# Altium footprint library SiProFaSi.PcbLib: 6 footprints
Each footprint in its own frame and in the unit in brackets; x right, y up, seen from the top. Pads: shape width x height; smd on the part's side, far side on the other; paste and mask are expansions set on the pad; w line width, h text height; cw(c..) or ccw(c..) is an arc to the next point about the centre after c.
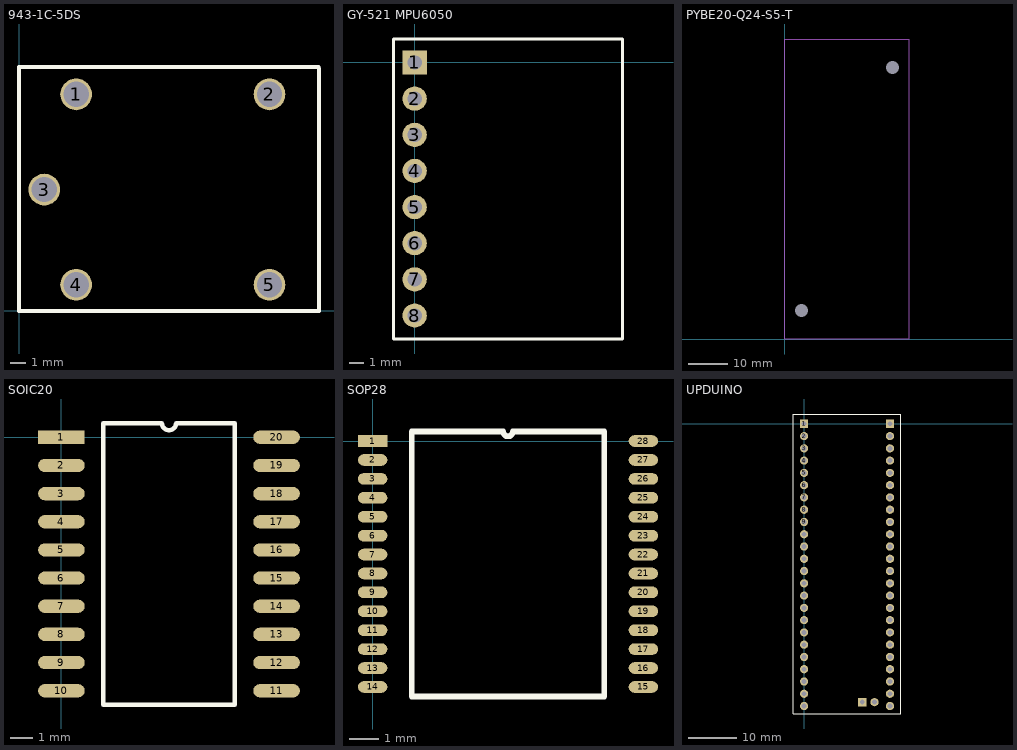
[diagram p0: the footprints below, top view; thin cyan lines are the x and y axes]

## 943-1C-5DS [mm]
height 15.2
pads (5):
  round 2 hole 1.6: 1(3.6,13.65) 2(15.8,13.65) 3(1.6,7.65) 4(3.6,1.65) 5(15.8,1.65)
Top Overlay:
  lines w0.254: 0,15.3 0,0 18.9,0 ; 0,15.367 18.9,15.367 ; 18.923,0 18.923,15.3
3D body: height 15.2, standoff 0, extent 0,0 18.923,15.367

## GY-521 MPU6050 [mm]
pads (8):
  rect 1.7x1.7 hole 1: 1(0,0)
  round 1.7 hole 1: 2(0,-2.54) 3(0,-5.08) 4(0,-7.62) 5(0,-10.16) 6(0,-12.7) 7(0,-15.24) 8(0,-17.78)
Top Overlay:
  lines w0.2: -1.49,1.569 -1.49,-19.431 14.605,-19.431 14.605,1.651 -1.49,1.651

## PYBE20-Q24-S5-T [mm]
height 21.2
pads (2):
  round 1.524 hole 3.3: 1(4.25,7.2) 1(27.25,68.8)
Mechanical 1:
  lines w0.254: 0,0 0,76 31.5,76 ; 0.031,0.031 31.531,0.031 ; 31.5,0.031 31.5,76.031
3D body "PYBE20-Q24-S5-T.STEP": height 21.2, standoff 0, extent 0,0 31.5,76

## SOIC20 [mm]
height 3.55
pads (20):
  rect 2.1x0.6 smd: 1(0,0)
  oval 2.1x0.6 smd: 2(0,-1.27) 3(0,-2.54) 4(0,-3.81) 5(0,-5.08) 6(0,-6.35) 7(0,-7.62) 8(0,-8.89) 9(0,-10.16) 10(0,-11.43) 11(9.7,-11.43) 12(9.7,-10.16) 13(9.7,-8.89) 14(9.7,-7.62) 15(9.7,-6.35) 16(9.7,-5.08) 17(9.7,-3.81) 18(9.7,-2.54) 19(9.7,-1.27) 20(9.7,0)
Top Overlay:
  lines w0.2: 1.885,-12.065 1.885,0.635 4.533,0.635 ccw(c4.85,0.635) 5.168,0.635 7.815,0.635 7.815,-12.065 1.885,-12.065

## SOP28 [mm]
pads (28):
  rect 1.01x0.4 smd: 1(0,0)
  oval 1.01x0.4 smd: 2(0,-0.65) 3(0,-1.3) 4(0,-1.95) 5(0,-2.6) 6(0,-3.25) 7(0,-3.9) 8(0,-4.55) 9(0,-5.2) 10(0,-5.85) 11(0,-6.5) 12(0,-7.15) 13(0,-7.8) 14(0,-8.45) 15(9.3,-8.45) 16(9.3,-7.8) 17(9.3,-7.15) 18(9.3,-6.5) 19(9.3,-5.85) 20(9.3,-5.2) 21(9.3,-4.55) 22(9.3,-3.9) 23(9.3,-3.25) 24(9.3,-2.6) 25(9.3,-1.95) 26(9.3,-1.3) 27(9.3,-0.65) 28(9.3,0)
Top Overlay:
  lines w0.2: 1.34,-8.775 7.96,-8.775 7.96,0.325 4.812,0.325 cw(c4.65,0.325) 4.487,0.325 1.34,0.325 1.34,-8.775

## UPDUINO [mm]
pads (50):
  rect 1.7x1.7 hole 1 mask+0.051: 1(0,0) 48(17.78,0) 49(12.04,-57.62)
  round 1.7 hole 1 mask+0.051: 2(0,-2.54) 3(0,-5.08) 4(0,-7.62) 5(0,-10.16) 6(0,-12.7) 7(0,-15.24) 8(0,-17.78) 9(0,-20.32) 10(0,-22.86) 11(0,-25.4) 12(0,-27.94) 13(0,-30.48) 14(0,-33.02) 15(0,-35.56) 16(0,-38.1) 17(0,-40.64) 18(0,-43.18) 19(0,-45.72) 20(0,-48.26) 21(0,-50.8) 22(0,-53.34) 23(0,-55.88) 24(0,-58.42) 25(17.78,-58.42) 26(17.78,-55.88) 27(17.78,-53.34) 28(17.78,-50.8) 29(17.78,-48.26) 30(17.78,-45.72) 31(17.78,-43.18) 32(17.78,-40.64) 33(17.78,-38.1) 34(17.78,-35.56) 35(17.78,-33.02) 36(17.78,-30.48) 37(17.78,-27.94) 38(17.78,-25.4) 39(17.78,-22.86) 40(17.78,-20.32) 41(17.78,-17.78) 42(17.78,-15.24) 43(17.78,-12.7) 44(17.78,-10.16) 45(17.78,-7.62) 46(17.78,-5.08) 47(17.78,-2.54) 50(14.58,-57.62)
Top Overlay:
  lines w0.254: -2.225,-60.071 20,-60.071 20,2.032 -2.225,2.032 -2.225,-60.071
3D body "micro USB.STEP": height 2.93, standoff 0.01, extent 4.776,-2.009 12.75,3.417
3D body "Pin Header 1x12 TH Pitch 2.54mm.stp": height 2.41, standoff -10.29, extent -1.27,-29.21 1.27,1.27
3D body "Pin Header 1x12 TH Pitch 2.54mm.stp": height 2.41, standoff -10.29, extent -1.27,-59.69 1.27,-29.21
3D body "Pin Header 1x12 TH Pitch 2.54mm.stp": height 2.41, standoff -10.29, extent 16.51,-59.69 19.05,-29.21
3D body "Pin Header 1x12 TH Pitch 2.54mm.stp": height 2.41, standoff -10.29, extent 16.51,-29.21 19.05,1.27
3D body: height 0, standoff -0.79, extent -2.286,-60.071 20.066,2.032